# EAGLE library part RDA1846 (library RDA1846)
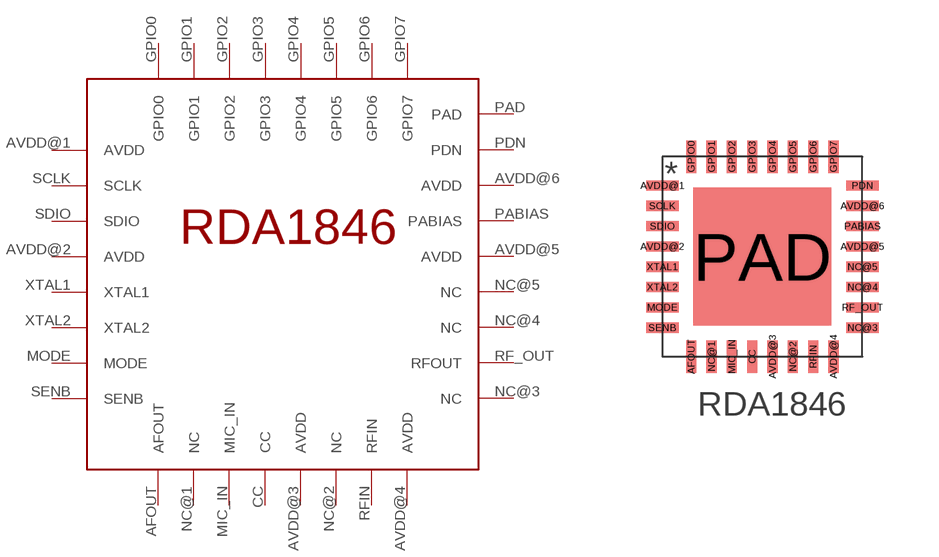
[diagram p0: symbol with the pads of 32_PIN_QFN; footprint 32_PIN_QFN]

Designator prefix -

## RDA1846  [32_PIN_QFN]
AFOUT  AFOUT
AVDD@1  AVDD
AVDD@2  AVDD
AVDD@3  AVDD
AVDD@4  AVDD
AVDD@5  AVDD
AVDD@6  AVDD
CC  CC
GPIO0  GPIO0
GPIO1  GPIO1
GPIO2  GPIO2
GPIO3  GPIO3
GPIO4  GPIO4
GPIO5  GPIO5
GPIO6  GPIO6
GPIO7  GPIO7
MIC_IN  MIC_IN
MODE  MODE
NC@1  NC
NC@2  NC
NC@3  NC
NC@4  NC
NC@5  NC
PABIAS  PABIAS
PAD  PAD
PDN  PDN
RF_OUT  RFOUT
RFIN  RFIN
SCLK  SCLK
SDIO  SDIO
SENB  SENB
XTAL1  XTAL1
XTAL2  XTAL2

## Footprint 32_PIN_QFN (pad centres in mm)
smd 0.254 x 0.813: AFOUT -1.778,-2.502; AVDD@3 0.254,-2.502; AVDD@4 1.778,-2.502; CC -0.254,-2.502; GPIO0 -1.778,2.502; GPIO1 -1.27,2.502; GPIO2 -0.762,2.502; GPIO3 -0.254,2.502; GPIO4 0.254,2.502; GPIO5 0.762,2.502; GPIO6 1.27,2.502; GPIO7 1.778,2.502; MIC_IN -0.762,-2.502; NC@1 -1.27,-2.502; NC@2 0.762,-2.502; RFIN 1.27,-2.502
smd 0.813 x 0.254: AVDD@1 -2.502,1.778; AVDD@2 -2.502,0.254; AVDD@5 2.502,0.254; AVDD@6 2.502,1.27; MODE -2.502,-1.27; NC@3 2.502,-1.778; NC@4 2.502,-0.762; NC@5 2.502,-0.254; PABIAS 2.502,0.762; PDN 2.502,1.778; RF_OUT 2.502,-1.27; SCLK -2.502,1.27; SDIO -2.502,0.762; SENB -2.502,-1.778; XTAL1 -2.502,-0.254; XTAL2 -2.502,-0.762
smd 3.454 x 3.454: PAD 0,0